# EAGLE library part BNO055 (library Arduino)
BNO055_walking analysis
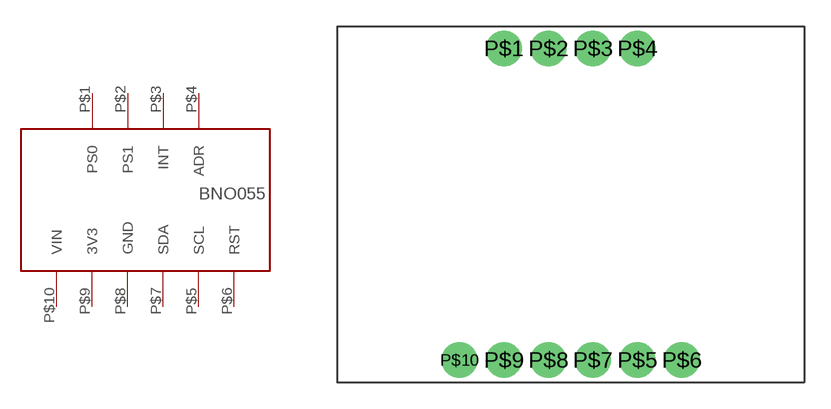
[diagram p0: symbol with the pads of BNO055_FOOTPRINT; footprint BNO055_FOOTPRINT]

Designator prefix -

## BNO055  [BNO055_FOOTPRINT]
P$1  PS0
P$2  PS1
P$3  INT
P$4  ADR
P$5  SCL
P$6  RST
P$7  SDA
P$8  GND  pwr
P$9  3V3  pwr
P$10  VIN  pwr

## Footprint BNO055_FOOTPRINT (pad centres in mm)
drill 1.016 pad 2.032: P$1 -3.81,19.05; P$2 -1.27,19.05; P$3 1.27,19.05; P$4 3.81,19.05; P$5 3.81,1.27; P$6 6.35,1.27; P$7 1.27,1.27; P$8 -1.27,1.27; P$9 -3.81,1.27; P$10 -6.35,1.27